# Altium footprint library Resistance.PcbLib: 9 footprints
Each footprint in its own frame and in the unit in brackets; x right, y up, seen from the top. Pads: shape width x height; smd on the part's side, far side on the other; paste and mask are expansions set on the pad; w line width, h text height; cw(c..) or ccw(c..) is an arc to the next point about the centre after c.
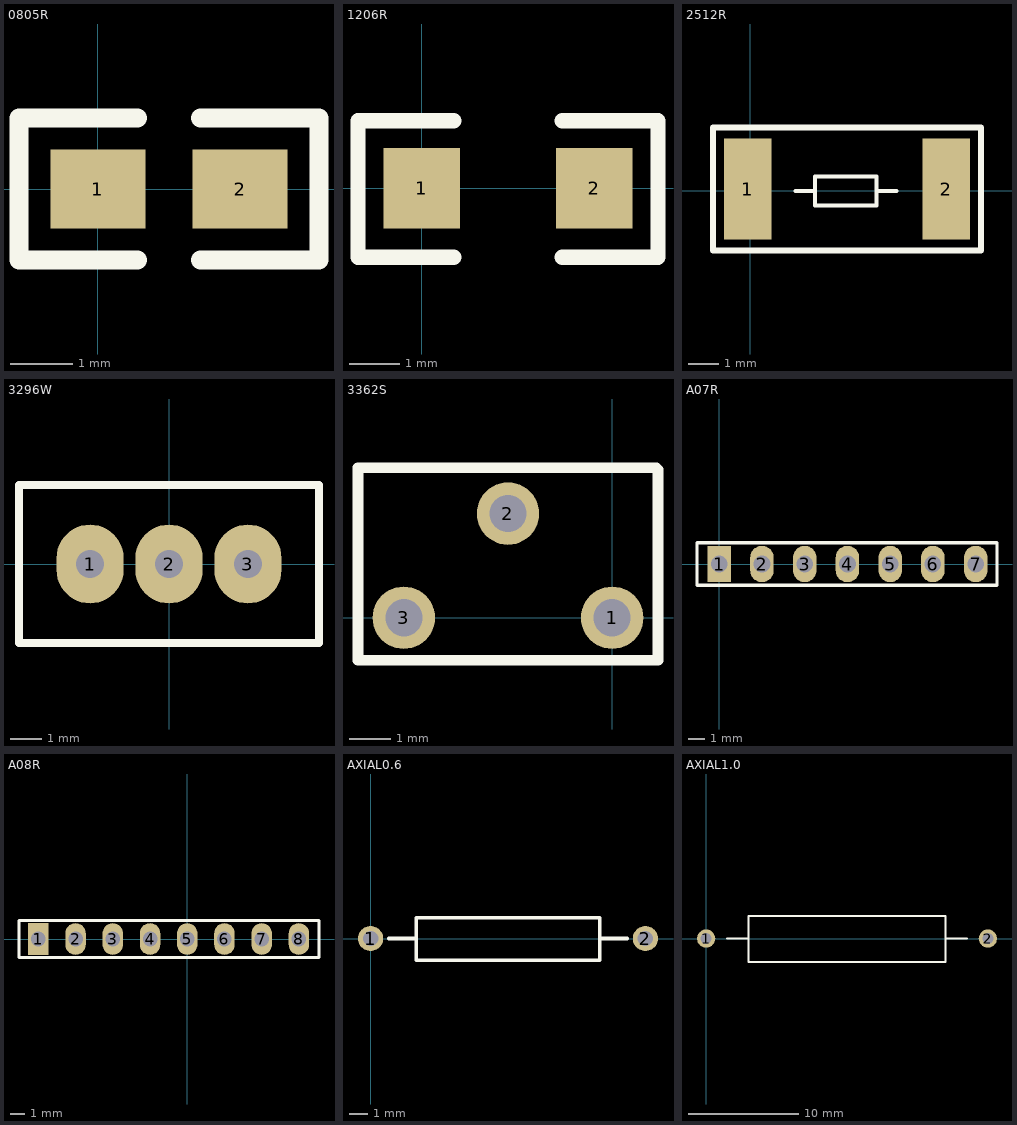
[diagram p0: the footprints below, top view; thin cyan lines are the x and y axes]

## 0805R [mil]
pads (2):
  rect 60x50 smd: 1(0,0) 2(90,0)
Top Overlay:
  lines w12: 25,-45 -50,-45 -50,45 25,45 ; 65,-45 140,-45 140,45 65,45
3D body "RES0805.STEP": height 15, standoff -1.14, extent 1.26,-24.6 80,24.61

## 1206R [mil]
pads (2):
  rect 60x62.99 smd: 1(0,0) 2(135,0)
Top Overlay:
  lines w12: 25,-54 -50,-54 -50,53 25,53 ; 110,-54 185,-54 185,53 110,53
3D body "R1206.STEP": height 23.62, standoff 0, extent 7.01,-31.49 133,31.5

## 2512R [mil]
pads (2):
  rect 61x129.92 smd: 1(-3.11,2) 2(251.89,2)
Top Overlay:
  lines w5.12: 58.04,-0.61 83.63,-0.61 ; 162.37,-0.61 187.96,-0.61 ; 83.63,-19.31 83.63,18.09 162.37,18.09 162.37,-19.31 83.63,-19.31
  lines w7.87: -47.39,-76.74 -47.39,80.74 296.17,80.74 296.17,-76.74 -47.39,-76.74
3D body "User Library-res2512_body.step": height 24.44, standoff 0, extent 0,-63 248.79,63

## 3296W [mil]
pads (3):
  oval 85x100 hole 35: 1(-100,0) 2(0,0) 3(100,0)
Top Overlay:
  lines w10: -190,-100 190,-100 190,100 -190,100 -190,-100
3D body "User Library-3296W.step": height 454.72, standoff -62.99, extent -187.6,-94.49 187.6,94.49

## 3362S [mm]
pads (3):
  round 1.5 hole 0.889: 1(0,0) 2(-2.5,2.5) 3(-5,0)
Top Overlay:
  lines w0.254: -6.1,-1.016 1.1,-1.016 ; -6.1,-1.016 -6.1,3.596 1.06,3.596 1.1,3.556 1.1,-1.016 ; -6.1,-1.016 1.1,-1.016
3D body "3362S.STEP": height 7.11, standoff -5.39, extent -5.84,-1.268 0.76,3.432

## A07R [mil]
pads (7):
  rect 55x85 hole 39: 1(0,0)
  oval 55x85 hole 39: 2(100,0) 3(200,0) 4(300,0) 5(400,0) 6(500,0) 7(600,0)
Top Overlay:
  lines w7.87: -52,-50 -52,50 48,50 100,50 650,50 650,-50 -52,-50

## A08R [mil]
pads (8):
  rect 55x85 hole 39: 1(-400,0)
  oval 55x85 hole 39: 2(-300,0) 3(-200,0) 4(-100,0) 5(0,0) 6(100,0) 7(200,0) 8(300,0)
Top Overlay:
  lines w7.87: -452,-50 354,-50 354,50 -300,50 -352,50 -452,50 -452,-50
3D body "User Library-4600H Series (Bourns).step": height 306.75, standoff -173.31, extent -449.02,-50 349.02,48.03

## AXIAL0.6 [mm] "Variable Resistor; 2 Leads"
height 2.54
pads (2):
  round 1.4 hole 0.85: 1(0,0) 2(15.24,0)
Top Overlay:
  lines w0.2: 1.016,0 2.54,0 ; 12.7,0 14.224,0 ; 2.54,-1.194 2.54,1.143 12.7,1.143 12.7,-1.194 2.54,-1.194
3D body "AXIAL06.STEP": height 2.5, standoff -0.8, extent -0.117,-1.351 15.443,1.249

## AXIAL1.0 [mm] "Adjustable Magnetic-Core Inductor; 2 Leads"
height 7.62
pads (2):
  round 1.65 hole 1: 1(0,0) 2(25.4,0)
Top Overlay:
  lines w0.2: 1.905,0 3.81,0 ; 21.59,0 23.495,0 ; 3.81,-2.108 3.81,2.032 21.59,2.032 21.59,-2.108 3.81,-2.108
3D body "AXIAL10.STEP": height 4.3, standoff -1, extent -0.368,-2.362 25.832,2.238